# EAGLE library part A1200-CLOCKPORT (library Amiga)
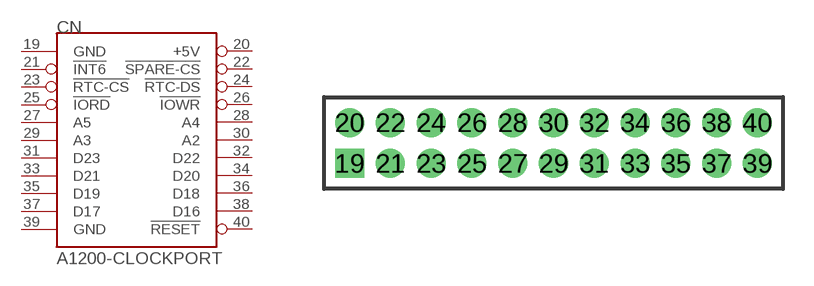
[diagram p39: symbol with the pads of CP-2X11-2.00; footprint CP-2X11-2.00]

Designator prefix CN

## A1200-CLOCKPORT  [CP-2X11-2.00]
19  GND  pwr
20  +5V  pwr
21  !INT6  in
22  !SPARE-CS  in
23  !RTC-CS  in
24  !RTC-DS  in
25  !IORD  in
26  !IOWR  in
27  A5  in
28  A4  in
29  A3  in
30  A2  in
31  D23
32  D22
33  D21
34  D20
35  D19
36  D18
37  D17
38  D16
39  GND  pwr
40  !RESET  in

## Footprint CP-2X11-2.00 (pad centres in mm)
drill 0.914 square: 19 -10,-1
drill 0.914: 20 -10,1; 21 -8,-1; 22 -8,1; 23 -6,-1; 24 -6,1; 25 -4,-1; 26 -4,1; 27 -2,-1; 28 -2,1; 29 0,-1; 30 0,1; 31 2,-1; 32 2,1; 33 4,-1; 34 4,1; 35 6,-1; 36 6,1; 37 8,-1; 38 8,1; 39 10,-1; 40 10,1